# Altium integrated library Diode - Rectifier.IntLib: 777 symbols (part 1 of 12)
Pins are listed as number, name and electrical type; pins without a type are passive.

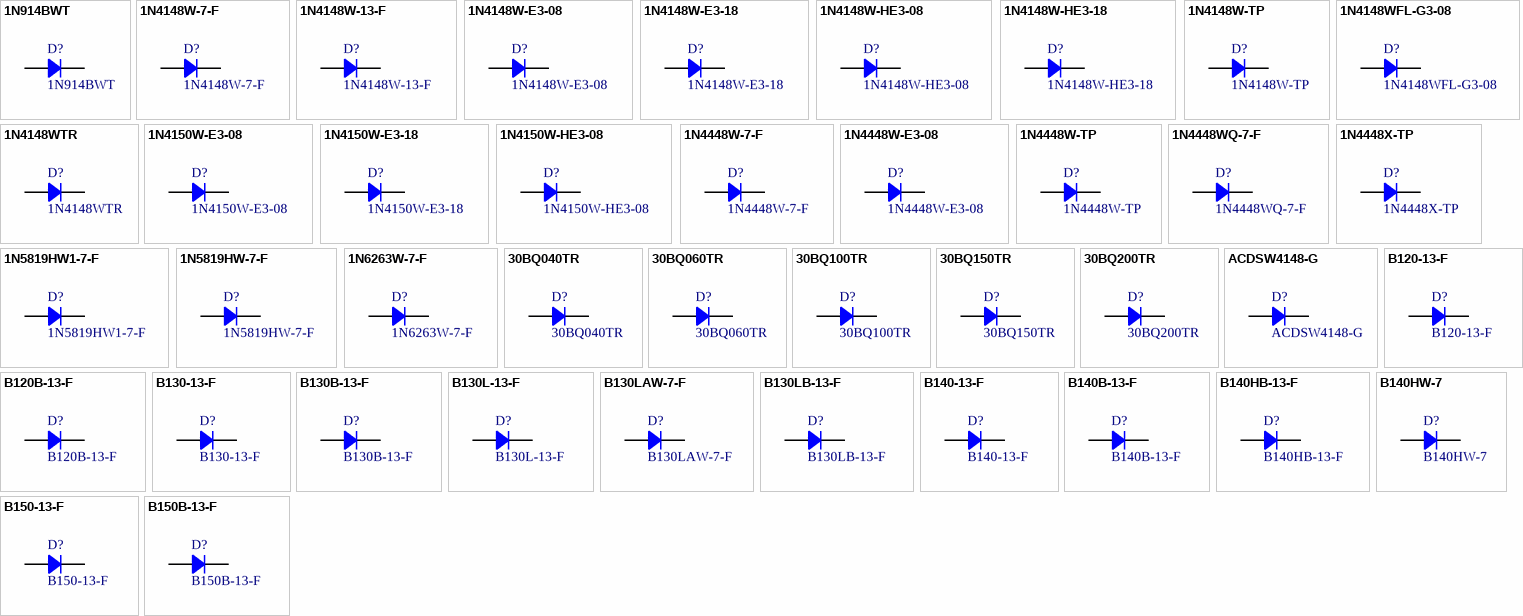
[diagram p0: symbols 1N914BWT to B150B-13-F]

## 1N914BWT
designator D?
DIODE GEN PURP 75V 200MA SOD523F; Manufacturer: Fairchild Semiconductor; Type: Surface Mount; Current Reverse Leakage @ Vr: 5uA @ 75V; Reverse Recovery Time (trr): 4ns; Voltage Forward (Vf): 1V @ 100mA; Part Number: 1N914BWT; PartId: 7145; Supplier 1: Digi-Key; Supplier Part Number 1: 1N914BWTTR-ND; ComponentLink1Description: Datasheet; ComponentLink1URL: http://www.fairchildsemi.com/datasheets/1N/1N914BWT.pdf; ComponentLink2Description: Digi-Key Listing; ComponentLink2URL: http://www.digikey.ca/product-detail/en/1N914BWT/1N914BWTTR-ND/1954019; Junction Operating Temperature: -55C ~ 150C; Price: 0.0336; Device Package: SC-79, SOD-523F; Voltage DC Reverse (Vr): 75V; Current Rectified: 200mA
footprint SOD523F
pins: 1, 2

## 1N4148W-7-F
designator D?
DIODE GEN PURP 100V 300MA SOD123; Manufacturer: Diodes Incorporated; Type: Standard; Current Reverse Leakage @ Vr: 1uA @ 75V; Reverse Recovery Time (trr): 4ns; Current Rectified: 300mA (DC); Voltage Forward (Vf): 1.25V @ 150mA; Part Number: 1N4148W-7-F; PartId: 14588; Supplier 1: Digi-Key; Supplier Part Number 1: 1N4148W-FDITR-ND; ComponentLink1Description: Datasheet; ComponentLink1URL: http://www.diodes.com/_files/datasheets/ds30086.pdf; ComponentLink2Description: Digi-Key Listing; ComponentLink2URL: https://www.digikey.com/product-detail/en/diodes-incorporated/1N4148W-7-F/1N4148W-FDITR-ND/814371; Junction Operating Temperature: -65C ~ 150C; Price: 0.028; Device Package: SOD-123; Voltage DC Reverse (Vr): 100V
footprint SOD-123
pins: 1, 2

## 1N4148W-13-F
designator D?
DIODE GEN PURP 100V 150MA SOD123; Manufacturer: Diodes Incorporated; Type: Standard; Current Reverse Leakage @ Vr: 1uA @ 75V; Reverse Recovery Time (trr): 4ns; Voltage Forward (Vf): 1.25V @ 150mA; Part Number: 1N4148W-13-F; PartId: 14600; Supplier 1: Digi-Key; Supplier Part Number 1: 1N4148W-13FDITR-ND; ComponentLink1Description: Datasheet; ComponentLink1URL: http://www.diodes.com/_files/datasheets/ds30086.pdf; ComponentLink2Description: Digi-Key Listing; ComponentLink2URL: https://www.digikey.com/product-detail/en/diodes-incorporated/1N4148W-13-F/1N4148W-13FDITR-ND/1933928; Junction Operating Temperature: -65C ~ 150C; Price: 0.064; Device Package: SOD-123; Voltage DC Reverse (Vr): 100V; Current Rectified: 150mA
footprint SOD-123
pins: 1, 2

## 1N4148W-E3-08
designator D?
DIODE GEN PURP 75V 150MA SOD123; Manufacturer: Vishay Semiconductor Diodes Division; Type: Standard; Current Reverse Leakage @ Vr: 100uA @ 100V; Reverse Recovery Time (trr): 4ns; Voltage Forward (Vf): 1.2V @ 100mA; Part Number: 1N4148W-E3-08; PartId: 29363; Supplier 1: Digi-Key; Supplier Part Number 1: 1N4148W-E3-08CT-ND; ComponentLink1Description: Datasheet; ComponentLink1URL: http://www.vishay.com/docs/85748/1n4148w.pdf; ComponentLink2Description: Digi-Key Listing; ComponentLink2URL: https://www.digikey.com/product-detail/en/vishay-semiconductor-diodes-division/1N4148W-E3-08/1N4148W-E3-08CT-ND/3104405; Junction Operating Temperature: 150C (Max); Price: 0.23; Device Package: SOD-123; Voltage DC Reverse (Vr): 75V; Current Rectified: 150mA
footprint SOD-123
pins: 1, 2

## 1N4148W-E3-18
designator D?
DIODE GEN PURP 75V 150MA SOD123; Manufacturer: Vishay Semiconductor Diodes Division; Type: Standard; Current Reverse Leakage @ Vr: 100uA @ 100V; Reverse Recovery Time (trr): 4ns; Voltage Forward (Vf): 1.2V @ 100mA; Part Number: 1N4148W-E3-18; PartId: 29355; Supplier 1: Digi-Key; Supplier Part Number 1: 1N4148W-E3-18CT-ND; ComponentLink1Description: Datasheet; ComponentLink1URL: http://www.vishay.com/docs/85748/1n4148w.pdf; ComponentLink2Description: Digi-Key Listing; ComponentLink2URL: https://www.digikey.com/product-detail/en/vishay-semiconductor-diodes-division/1N4148W-E3-18/1N4148W-E3-18CT-ND/3104406; Junction Operating Temperature: 150C (Max); Price: 0.23; Device Package: SOD-123; Voltage DC Reverse (Vr): 75V; Current Rectified: 150mA
footprint SOD-123
pins: 1, 2

## 1N4148W-HE3-08
designator D?
DIODE GEN PURP 75V 150MA SOD123; Manufacturer: Vishay Semiconductor Diodes Division; Type: Standard; Current Reverse Leakage @ Vr: 100uA @ 100V; Reverse Recovery Time (trr): 4ns; Voltage Forward (Vf): 1.2V @ 100mA; Part Number: 1N4148W-HE3-08; PartId: 29404; Supplier 1: Digi-Key; Supplier Part Number 1: 1N4148W-HE3-08GICT-ND; ComponentLink1Description: Datasheet; ComponentLink1URL: http://www.vishay.com/docs/85748/1n4148w.pdf; ComponentLink2Description: Digi-Key Listing; ComponentLink2URL: https://www.digikey.com/product-detail/en/vishay-semiconductor-diodes-division/1N4148W-HE3-08/1N4148W-HE3-08GICT-ND/6228445; Junction Operating Temperature: -55C ~ 150C; Price: 0.24; Device Package: SOD-123; Voltage DC Reverse (Vr): 75V; Current Rectified: 150mA
footprint SOD-123
pins: 1, 2

## 1N4148W-HE3-18
designator D?
DIODE GEN PURP 75V 150MA SOD123; Manufacturer: Vishay Semiconductor Diodes Division; Type: Standard; Current Reverse Leakage @ Vr: 100uA @ 100V; Reverse Recovery Time (trr): 4ns; Voltage Forward (Vf): 1.2V @ 100mA; Part Number: 1N4148W-HE3-18; PartId: 29418; Supplier 1: Digi-Key; Supplier Part Number 1: 1N4148W-HE3-18GICT-ND; ComponentLink1Description: Datasheet; ComponentLink1URL: http://www.vishay.com/docs/85748/1n4148w.pdf; ComponentLink2Description: Digi-Key Listing; ComponentLink2URL: https://www.digikey.com/product-detail/en/vishay-semiconductor-diodes-division/1N4148W-HE3-18/1N4148W-HE3-18GICT-ND/6228415; Junction Operating Temperature: -55C ~ 150C; Price: 0.24; Device Package: SOD-123; Voltage DC Reverse (Vr): 75V; Current Rectified: 150mA
footprint SOD-123
pins: 1, 2

## 1N4148W-TP
designator D?
DIODE GEN PURP 100V 150MA SOD123; Manufacturer: Micro Commercial Co; Type: Surface Mount; Current Reverse Leakage @ Vr: 1A @ 75V; Reverse Recovery Time (trr): 4ns; Voltage Forward (Vf): 1.25V @ 150mA; Part Number: 1N4148W-TP; PartId: 7114; Supplier 1: Digi-Key; Supplier Part Number 1: 1N4148WTPMSTR-ND; ComponentLink1Description: Datasheet; ComponentLink1URL: http://www.mccsemi.com/up_pdf/1N4148W(SOD123).pdf; ComponentLink2Description: Digi-Key Listing; ComponentLink2URL: http://www.digikey.ca/product-detail/en/1N4148W-TP/1N4148WTPMSTR-ND/717196; Junction Operating Temperature: -65C ~ 150C; Price: 0.0321; Device Package: SOD-123; Voltage DC Reverse (Vr): 100V; Current Rectified: 150mA
footprint SOD123F
pins: 1, 2

## 1N4148WFL-G3-08
designator D?
DIODE GP 75V 150MA SOD123FL; Manufacturer: Vishay Semiconductor Diodes Division; Type: Surface Mount; Current Reverse Leakage @ Vr: 5A @ 75V; Reverse Recovery Time (trr): 4ns; Voltage Forward (Vf): 1.2V @ 100mA; Part Number: 1N4148WFL-G3-08; PartId: 7113; Supplier 1: Digi-Key; Supplier Part Number 1: 1N4148WFL-G3-08GITR-ND; ComponentLink1Description: Datasheet; ComponentLink1URL: http://www.vishay.com/docs/85887/1n4148wfl-g.pdf; ComponentLink2Description: Digi-Key Listing; ComponentLink2URL: http://www.digikey.ca/product-detail/en/1N4148WFL-G3-08/1N4148WFL-G3-08GITR-ND/4477244; Junction Operating Temperature: 150C (Max); Price: 0.0292; Device Package: SOD-123F; Voltage DC Reverse (Vr): 75V; Current Rectified: 150mA
footprint SOD123F
pins: 1, 2

## 1N4148WTR
designator D?
DIODE GEN PURP 75V 250MA SOD123; Manufacturer: SMC Diode Solutions; Type: Standard; Current Reverse Leakage @ Vr: 2.5uA @ 75V; Reverse Recovery Time (trr): 4ns; Current Rectified: 250mA (DC); Voltage Forward (Vf): 1.25V @ 150mA; Part Number: 1N4148WTR; PartId: 29352; Supplier 1: Digi-Key; Supplier Part Number 1: 1655-1360-1-ND; ComponentLink1Description: Datasheet; ComponentLink1URL: http://www.smc-diodes.com/propdf/1N4148W%20N0571%20REV.C.pdf; ComponentLink2Description: Digi-Key Listing; ComponentLink2URL: https://www.digikey.com/product-detail/en/smc-diode-solutions/1N4148WTR/1655-1360-1-ND/6022805; Junction Operating Temperature: -55C ~ 150C; Price: 0.13; Device Package: SOD-123; Voltage DC Reverse (Vr): 75V
footprint SOD-123
pins: 1, 2

## 1N4150W-E3-08
designator D?
DIODE GEN PURP 50V 200MA SOD123; Manufacturer: Vishay Semiconductor Diodes Division; Type: Standard; Current Reverse Leakage @ Vr: 100nA @ 50V; Reverse Recovery Time (trr): 4ns; Voltage Forward (Vf): 1V @ 200mA; Part Number: 1N4150W-E3-08; PartId: 29368; Supplier 1: Digi-Key; Supplier Part Number 1: 1N4150W-E3-08CT-ND; ComponentLink1Description: Datasheet; ComponentLink1URL: http://www.vishay.com/docs/85720/1n4150wv.pdf; ComponentLink2Description: Digi-Key Listing; ComponentLink2URL: https://www.digikey.com/product-detail/en/vishay-semiconductor-diodes-division/1N4150W-E3-08/1N4150W-E3-08CT-ND/3104407; Junction Operating Temperature: 150C (Max); Price: 0.26; Device Package: SOD-123; Voltage DC Reverse (Vr): 50V; Current Rectified: 200mA
footprint SOD-123
pins: 1, 2

## 1N4150W-E3-18
designator D?
DIODE GEN PURP 50V 200MA SOD123; Manufacturer: Vishay Semiconductor Diodes Division; Type: Standard; Current Reverse Leakage @ Vr: 100nA @ 50V; Reverse Recovery Time (trr): 4ns; Voltage Forward (Vf): 1V @ 200mA; Part Number: 1N4150W-E3-18; PartId: 29439; Supplier 1: Digi-Key; Supplier Part Number 1: 1N4150W-E3-18GICT-ND; ComponentLink1Description: Datasheet; ComponentLink1URL: http://www.vishay.com/docs/85720/1n4150wv.pdf; ComponentLink2Description: Digi-Key Listing; ComponentLink2URL: https://www.digikey.com/product-detail/en/vishay-semiconductor-diodes-division/1N4150W-E3-18/1N4150W-E3-18GICT-ND/6228417; Junction Operating Temperature: -55C ~ 150C; Price: 0.26; Device Package: SOD-123; Voltage DC Reverse (Vr): 50V; Current Rectified: 200mA
footprint SOD-123
pins: 1, 2

## 1N4150W-HE3-08
designator D?
DIODE GEN PURP 50V 200MA SOD123; Manufacturer: Vishay Semiconductor Diodes Division; Type: Standard; Current Reverse Leakage @ Vr: 100nA @ 50V; Reverse Recovery Time (trr): 4ns; Voltage Forward (Vf): 1V @ 200mA; Part Number: 1N4150W-HE3-08; PartId: 29406; Supplier 1: Digi-Key; Supplier Part Number 1: 1N4150W-HE3-08GICT-ND; ComponentLink1Description: Datasheet; ComponentLink1URL: http://www.vishay.com/docs/85720/1n4150wv.pdf; ComponentLink2Description: Digi-Key Listing; ComponentLink2URL: https://www.digikey.com/product-detail/en/vishay-semiconductor-diodes-division/1N4150W-HE3-08/1N4150W-HE3-08GICT-ND/6228446; Junction Operating Temperature: -55C ~ 150C; Price: 0.27; Device Package: SOD-123; Voltage DC Reverse (Vr): 50V; Current Rectified: 200mA
footprint SOD-123
pins: 1, 2

## 1N4448W-7-F
designator D?
DIODE GEN PURP 75V 250MA SOD123; Manufacturer: Diodes Incorporated; Type: Standard; Current Reverse Leakage @ Vr: 2.5uA @ 75V; Reverse Recovery Time (trr): 4ns; Voltage Forward (Vf): 1.25V @ 150mA; Part Number: 1N4448W-7-F; PartId: 14589; Supplier 1: Digi-Key; Supplier Part Number 1: 1N4448W-FDITR-ND; ComponentLink1Description: Datasheet; ComponentLink1URL: http://www.diodes.com/_files/datasheets/ds12002.pdf; ComponentLink2Description: Digi-Key Listing; ComponentLink2URL: https://www.digikey.com/product-detail/en/diodes-incorporated/1N4448W-7-F/1N4448W-FDITR-ND/717680; Junction Operating Temperature: -65C ~ 150C; Price: 0.0306; Device Package: SOD-123; Voltage DC Reverse (Vr): 75V; Current Rectified: 250mA
footprint SOD-123
pins: 1, 2

## 1N4448W-E3-08
designator D?
DIODE GEN PURP 75V 150MA SOD123; Manufacturer: Vishay Semiconductor Diodes Division; Type: Standard; Current Reverse Leakage @ Vr: 5uA @ 75V; Reverse Recovery Time (trr): 4ns; Voltage Forward (Vf): 720mV @ 5mA; Part Number: 1N4448W-E3-08; PartId: 29405; Supplier 1: Digi-Key; Supplier Part Number 1: 1N4448W-E3-08GICT-ND; ComponentLink1Description: Datasheet; ComponentLink1URL: http://www.vishay.com/docs/85722/1n4448w.pdf; ComponentLink2Description: Digi-Key Listing; ComponentLink2URL: https://www.digikey.com/product-detail/en/vishay-semiconductor-diodes-division/1N4448W-E3-08/1N4448W-E3-08GICT-ND/6228447; Junction Operating Temperature: -55C ~ 150C; Price: 0.26; Device Package: SOD-123; Voltage DC Reverse (Vr): 75V; Current Rectified: 150mA
footprint SOD-123
pins: 1, 2

## 1N4448W-TP
designator D?
DIODE GEN PURP 75V 250MA SOD123; Manufacturer: Micro Commercial Co; Type: Standard; Current Reverse Leakage @ Vr: 2.5uA @ 75V; Reverse Recovery Time (trr): 4ns; Voltage Forward (Vf): 1V @ 100mA; Part Number: 1N4448W-TP; PartId: 29353; Supplier 1: Digi-Key; Supplier Part Number 1: 1N4448WTPMSCT-ND; ComponentLink1Description: Datasheet; ComponentLink1URL: http://www.mccsemi.com/up_pdf/1N4448W(SOD-123).pdf; ComponentLink2Description: Digi-Key Listing; ComponentLink2URL: https://www.digikey.com/product-detail/en/micro-commercial-co/1N4448W-TP/1N4448WTPMSCT-ND/789337; Junction Operating Temperature: -55C ~ 150C; Price: 0.14; Device Package: SOD-123; Voltage DC Reverse (Vr): 75V; Current Rectified: 250mA
footprint SOD-123
pins: 1, 2

## 1N4448WQ-7-F
designator D?
DIODE GEN PURP 75V 250MA SOD123; Manufacturer: Diodes Incorporated; Type: Standard; Current Reverse Leakage @ Vr: 25nA @ 20V; Reverse Recovery Time (trr): 4ns; Voltage Forward (Vf): 1.25V @ 150mA; Part Number: 1N4448WQ-7-F; PartId: 29361; Supplier 1: Digi-Key; Supplier Part Number 1: 1N4448WQ-7-FDICT-ND; ComponentLink1Description: Datasheet; ComponentLink1URL: http://diodes.com/_files/datasheets/ds12002.pdf; ComponentLink2Description: Digi-Key Listing; ComponentLink2URL: https://www.digikey.com/product-detail/en/diodes-incorporated/1N4448WQ-7-F/1N4448WQ-7-FDICT-ND/5176058; Junction Operating Temperature: -65C ~ 150C; Price: 0.22; Device Package: SOD-123; Voltage DC Reverse (Vr): 75V; Current Rectified: 250mA
footprint SOD-123
pins: 1, 2

## 1N4448X-TP
designator D?
DIODE GEN PURP 75V 250MA SOD523; Manufacturer: Micro Commercial Co; Type: Standard; Current Reverse Leakage @ Vr: 2.5A @ 75V; Reverse Recovery Time (trr): 4ns; Voltage Forward (Vf): 1.25V @ 150mA; Part Number: 1N4448X-TP; PartId: 7112; Supplier 1: Digi-Key; Supplier Part Number 1: 1N4448XTPMSTR-ND; ComponentLink1Description: Datasheet; ComponentLink1URL: http://www.mccsemi.com/up_pdf/1N4448X(SOD-523).PDF; ComponentLink2Description: Digi-Key Listing; ComponentLink2URL: http://www.digikey.ca/product-detail/en/1N4448X-TP/1N4448XTPMSTR-ND/789329; Junction Operating Temperature: -65C ~ 150C; Price: 0.029; Device Package: SC-79, SOD-523; Voltage DC Reverse (Vr): 75V; Current Rectified: 250mA
footprint SOD523F
pins: 1, 2

## 1N5819HW1-7-F
designator D?
DIODE RECT SB 40V 1A SOD123F; Manufacturer: Diodes Incorporated; Type: Super Barrier; Current Reverse Leakage @ Vr: 500uA @ 40V; Reverse Recovery Time (trr): 15ns; Voltage Forward (Vf): 510mV @ 1A; Part Number: 1N5819HW1-7-F; PartId: 29290; Supplier 1: Digi-Key; Supplier Part Number 1: 1N5819HW1-7-FDICT-ND; ComponentLink1Description: Datasheet; ComponentLink1URL: http://www.diodes.com/_files/datasheets/1N5819HW1.pdf; ComponentLink2Description: Digi-Key Listing; ComponentLink2URL: https://www.digikey.com/product-detail/en/diodes-incorporated/1N5819HW1-7-F/1N5819HW1-7-FDICT-ND/5801283; Junction Operating Temperature: -55C ~ 125C; Price: 0.47; Device Package: SOD-123F; Voltage DC Reverse (Vr): 40V; Current Rectified: 1A
footprint SOD123F
pins: 1, 2

## 1N5819HW-7-F
designator D?
DIODE SCHOTTKY 40V 1A SOD123; Manufacturer: Diodes Incorporated; Current Reverse Leakage @ Vr: 1mA @ 40V; Voltage Forward (Vf): 450mV @ 1A; Part Number: 1N5819HW-7-F; PartId: 14604; Supplier 1: Digi-Key; Supplier Part Number 1: 1N5819HW-FDITR-ND; ComponentLink1Description: Datasheet; ComponentLink1URL: http://www.diodes.com/_files/datasheets/ds30217.pdf; ComponentLink2Description: Digi-Key Listing; ComponentLink2URL: https://www.digikey.com/product-detail/en/diodes-incorporated/1N5819HW-7-F/1N5819HW-FDITR-ND/814970; Junction Operating Temperature: -65C ~ 125C; Price: 0.08; Type: Schottky; Device Package: SOD-123; Voltage DC Reverse (Vr): 40V; Current Rectified: 1A
footprint SOD-123
pins: 1, 2

## 1N6263W-7-F
designator D?
DIODE SCHOTTKY 60V 15MA SOD123; Manufacturer: Diodes Incorporated; Current Reverse Leakage @ Vr: 200nA @ 50V; Reverse Recovery Time (trr): 1ns; Current Rectified: 15mA (DC); Voltage Forward (Vf): 1V @ 15mA; Part Number: 1N6263W-7-F; PartId: 14614; Supplier 1: Digi-Key; Supplier Part Number 1: 1N6263W-FDITR-ND; ComponentLink1Description: Datasheet; ComponentLink1URL: http://www.diodes.com/_files/datasheets/ds11014.pdf; ComponentLink2Description: Digi-Key Listing; ComponentLink2URL: https://www.digikey.com/product-detail/en/diodes-incorporated/1N6263W-7-F/1N6263W-FDITR-ND/814969; Junction Operating Temperature: -55C ~ 125C; Price: 0.09; Type: Schottky; Device Package: SOD-123; Voltage DC Reverse (Vr): 60V
footprint SOD-123
pins: 1, 2

## 30BQ040TR
designator D?
DIODE SCHOTTKY 40V SMC; Manufacturer: SMC Diode Solutions; Current Reverse Leakage @ Vr: 500uA @ 40V; Voltage Forward (Vf): 680mV @ 3A; Part Number: 30BQ040TR; PartId: 27712; Supplier 1: Digi-Key; Supplier Part Number 1: 1655-1387-1-ND; ComponentLink1Description: Datasheet; ComponentLink1URL: http://www.smc-diodes.com/propdf/30BQ040%20N0674%20REV.-.pdf; ComponentLink2Description: Digi-Key Listing; ComponentLink2URL: https://www.digikey.com/product-detail/en/smc-diode-solutions/30BQ040TR/1655-1387-1-ND/6022832; Junction Operating Temperature: -55C ~ 150C; Price: 0.51; Type: Schottky; Device Package: DO-214AB, SMC; Voltage DC Reverse (Vr): 40V
footprint ST DO214AB SMC
pins: 1, 2

## 30BQ060TR
designator D?
DIODE SCHOTTKY 60V SMC; Manufacturer: SMC Diode Solutions; Current Reverse Leakage @ Vr: 500uA @ 60V; Voltage Forward (Vf): 580mV @ 3A; Part Number: 30BQ060TR; PartId: 27794; Supplier 1: Digi-Key; Supplier Part Number 1: 1655-1388-1-ND; ComponentLink1Description: Datasheet; ComponentLink1URL: http://www.smc-diodes.com/propdf/30BQ060%20N0675%20REV.-.pdf; ComponentLink2Description: Digi-Key Listing; ComponentLink2URL: https://www.digikey.com/product-detail/en/smc-diode-solutions/30BQ060TR/1655-1388-1-ND/6022833; Junction Operating Temperature: -55C ~ 150C; Price: 0.51; Type: Schottky; Device Package: DO-214AB, SMC; Voltage DC Reverse (Vr): 60V
footprint ST DO214AB SMC
pins: 1, 2

## 30BQ100TR
designator D?
DIODE SCHOTTKY 100V SMC; Manufacturer: SMC Diode Solutions; Current Reverse Leakage @ Vr: 500uA @ 100V; Voltage Forward (Vf): 790mV @ 3A; Part Number: 30BQ100TR; PartId: 27840; Supplier 1: Digi-Key; Supplier Part Number 1: 1655-1389-1-ND; ComponentLink1Description: Datasheet; ComponentLink1URL: http://www.smc-diodes.com/propdf/30BQ100%20N0676%20REV.-.pdf; ComponentLink2Description: Digi-Key Listing; ComponentLink2URL: https://www.digikey.com/product-detail/en/smc-diode-solutions/30BQ100TR/1655-1389-1-ND/6022834; Junction Operating Temperature: -55C ~ 175C; Price: 0.54; Type: Schottky; Device Package: DO-214AB, SMC; Voltage DC Reverse (Vr): 100V
footprint ST DO214AB SMC
pins: 1, 2

## 30BQ150TR
designator D?
DIODE SCHOTTKY 150V SMC; Manufacturer: SMC Diode Solutions; Current Reverse Leakage @ Vr: 1mA @ 150V; Voltage Forward (Vf): 860mV @ 3A; Part Number: 30BQ150TR; PartId: 27838; Supplier 1: Digi-Key; Supplier Part Number 1: 1655-1390-1-ND; ComponentLink1Description: Datasheet; ComponentLink1URL: http://www.smc-diodes.com/propdf/30BQ150%20N0677%20REV.-.pdf; ComponentLink2Description: Digi-Key Listing; ComponentLink2URL: https://www.digikey.com/product-detail/en/smc-diode-solutions/30BQ150TR/1655-1390-1-ND/6022835; Junction Operating Temperature: -55C ~ 175C; Price: 0.54; Type: Schottky; Device Package: DO-214AB, SMC; Voltage DC Reverse (Vr): 150V
footprint ST DO214AB SMC
pins: 1, 2

## 30BQ200TR
designator D?
DIODE SCHOTTKY 200V SMC; Manufacturer: SMC Diode Solutions; Current Reverse Leakage @ Vr: 1mA @ 200V; Voltage Forward (Vf): 920mV @ 3A; Part Number: 30BQ200TR; PartId: 27809; Supplier 1: Digi-Key; Supplier Part Number 1: 1655-1391-1-ND; ComponentLink1Description: Datasheet; ComponentLink1URL: http://www.smc-diodes.com/propdf/30BQ200%20N0026%20REV.-.pdf; ComponentLink2Description: Digi-Key Listing; ComponentLink2URL: https://www.digikey.com/product-detail/en/smc-diode-solutions/30BQ200TR/1655-1391-1-ND/6022836; Junction Operating Temperature: -55C ~ 175C; Price: 0.4; Type: Schottky; Device Package: DO-214AB, SMC; Voltage DC Reverse (Vr): 200V
footprint ST DO214AB SMC
pins: 1, 2

## ACDSW4148-G
designator D?
DIODE GEN PURP 100V 150MA SOD123; Manufacturer: Comchip Technology; Type: Standard; Current Reverse Leakage @ Vr: 1uA @ 75V; Reverse Recovery Time (trr): 4ns; Voltage Forward (Vf): 1.25V @ 150mA; Part Number: ACDSW4148-G; PartId: 29356; Supplier 1: Digi-Key; Supplier Part Number 1: 641-1624-1-ND; ComponentLink1Description: Datasheet; ComponentLink1URL: http://www.comchiptech.com/cms/UserFiles/ACDSW4148-G%20RevA259151.pdf; ComponentLink2Description: Digi-Key Listing; ComponentLink2URL: https://www.digikey.com/product-detail/en/comchip-technology/ACDSW4148-G/641-1624-1-ND/5013829; Junction Operating Temperature: -55C ~ 150C; Price: 0.21; Device Package: SOD-123; Voltage DC Reverse (Vr): 100V; Current Rectified: 150mA
footprint SOD-123
pins: 1, 2

## B120-13-F
designator D?
DIODE SCHOTTKY 20V 1A SMA; Manufacturer: Diodes Incorporated; Current Reverse Leakage @ Vr: 500uA @ 20V; Voltage Forward (Vf): 500mV @ 1A; Part Number: B120-13-F; PartId: 16319; Supplier 1: Digi-Key; Supplier Part Number 1: B120-FDITR-ND; ComponentLink1Description: Datasheet; ComponentLink1URL: http://www.diodes.com/_files/datasheets/ds13002.pdf; ComponentLink2Description: Digi-Key Listing; ComponentLink2URL: https://www.digikey.com/product-detail/en/diodes-incorporated/B120-13-F/B120-FDITR-ND/749950; Junction Operating Temperature: -65C ~ 150C; Price: 0.0684; Type: Schottky; Device Package: DO-214AC, SMA; Voltage DC Reverse (Vr): 20V; Current Rectified: 1A
footprint DO214AC SMA
pins: 1, 2

## B120B-13-F
designator D?
DIODE SCHOTTKY 20V 1A SMB; Manufacturer: Diodes Incorporated; Current Reverse Leakage @ Vr: 500uA @ 20V; Voltage Forward (Vf): 500mV @ 1A; Part Number: B120B-13-F; PartId: 16281; Supplier 1: Digi-Key; Supplier Part Number 1: B120B-FDITR-ND; ComponentLink1Description: Datasheet; ComponentLink1URL: http://www.diodes.com/_files/datasheets/ds13002.pdf; ComponentLink2Description: Digi-Key Listing; ComponentLink2URL: https://www.digikey.com/product-detail/en/diodes-incorporated/B120B-13-F/B120B-FDITR-ND/806530; Junction Operating Temperature: -65C ~ 150C; Price: 0.099; Type: Schottky; Device Package: DO-214AA, SMB; Voltage DC Reverse (Vr): 20V; Current Rectified: 1A
footprint DO214AA SMB
pins: 1, 2

## B130-13-F
designator D?
DIODE SCHOTTKY 30V 1A SMA; Manufacturer: Diodes Incorporated; Type: Surface Mount; Current Reverse Leakage @ Vr: 500uA @ 30V; Voltage Forward (Vf): 500mV @ 1A; Part Number: B130-13-F; PartId: 7122; Supplier 1: Digi-Key; Supplier Part Number 1: B130-FDITR-ND; ComponentLink1Description: Datasheet; ComponentLink1URL: http://www.diodes.com/_files/datasheets/ds13002.pdf; ComponentLink2Description: Digi-Key Listing; ComponentLink2URL: http://www.digikey.ca/product-detail/en/B130-13-F/B130-FDITR-ND/814935; Junction Operating Temperature: -65C ~ 150C; Price: 0.0852; Device Package: DO-214AC, SMA; Reverse Recovery Time (trr): -; Voltage DC Reverse (Vr): 30V; Current Rectified: 1A
footprint DO214AC SMA
pins: 1, 2

## B130B-13-F
designator D?
DIODE SCHOTTKY 30V 1A SMB; Manufacturer: Diodes Incorporated; Current Reverse Leakage @ Vr: 500uA @ 30V; Voltage Forward (Vf): 500mV @ 1A; Part Number: B130B-13-F; PartId: 16275; Supplier 1: Digi-Key; Supplier Part Number 1: B130B-FDITR-ND; ComponentLink1Description: Datasheet; ComponentLink1URL: http://www.diodes.com/_files/datasheets/ds13002.pdf; ComponentLink2Description: Digi-Key Listing; ComponentLink2URL: https://www.digikey.com/product-detail/en/diodes-incorporated/B130B-13-F/B130B-FDITR-ND/814936; Junction Operating Temperature: -65C ~ 150C; Price: 0.09; Type: Schottky; Device Package: DO-214AA, SMB; Voltage DC Reverse (Vr): 30V; Current Rectified: 1A
footprint DO214AA SMB
pins: 1, 2

## B130L-13-F
designator D?
DIODE SCHOTTKY 30V 1A SMA; Manufacturer: Diodes Incorporated; Current Reverse Leakage @ Vr: 1mA @ 30V; Voltage Forward (Vf): 410mV @ 1A; Part Number: B130L-13-F; PartId: 16355; Supplier 1: Digi-Key; Supplier Part Number 1: B130L-FDITR-ND; ComponentLink1Description: Datasheet; ComponentLink1URL: http://www.diodes.com/_files/datasheets/ds30151.pdf; ComponentLink2Description: Digi-Key Listing; ComponentLink2URL: https://www.digikey.com/product-detail/en/diodes-incorporated/B130L-13-F/B130L-FDITR-ND/749951; Junction Operating Temperature: -55C ~ 125C; Price: 0.1003; Type: Schottky; Device Package: DO-214AC, SMA; Voltage DC Reverse (Vr): 30V; Current Rectified: 1A
footprint DO214AC SMA
pins: 1, 2

## B130LAW-7-F
designator D?
DIODE SCHOTTKY 30V 1A SOD123; Manufacturer: Diodes Incorporated; Current Reverse Leakage @ Vr: 1mA @ 30V; Voltage Forward (Vf): 420mV @ 1A; Part Number: B130LAW-7-F; PartId: 14615; Supplier 1: Digi-Key; Supplier Part Number 1: B130LAW-FDITR-ND; ComponentLink1Description: Datasheet; ComponentLink1URL: http://www.diodes.com/_files/datasheets/ds30308.pdf; ComponentLink2Description: Digi-Key Listing; ComponentLink2URL: https://www.digikey.com/product-detail/en/diodes-incorporated/B130LAW-7-F/B130LAW-FDITR-ND/725013; Junction Operating Temperature: -55C ~ 125C; Price: 0.1062; Type: Schottky; Device Package: SOD-123; Voltage DC Reverse (Vr): 30V; Current Rectified: 1A
footprint SOD-123
pins: 1, 2

## B130LB-13-F
designator D?
DIODE SCHOTTKY 30V 2A SMB; Manufacturer: Diodes Incorporated; Current Reverse Leakage @ Vr: 1mA @ 30V; Voltage Forward (Vf): 445mV @ 2A; Part Number: B130LB-13-F; PartId: 16243; Supplier 1: Digi-Key; Supplier Part Number 1: B130LB-FDITR-ND; ComponentLink1Description: Datasheet; ComponentLink1URL: http://www.diodes.com/_files/datasheets/ds30043.pdf; ComponentLink2Description: Digi-Key Listing; ComponentLink2URL: https://www.digikey.com/product-detail/en/diodes-incorporated/B130LB-13-F/B130LB-FDITR-ND/804861; Junction Operating Temperature: -55C ~ 125C; Price: 0.0972; Type: Schottky; Device Package: DO-214AA, SMB; Voltage DC Reverse (Vr): 30V; Current Rectified: 2A
footprint DO214AA SMB
pins: 1, 2

## B140-13-F
designator D?
DIODE SCHOTTKY 40V 1A SMA; Manufacturer: Diodes Incorporated; Current Reverse Leakage @ Vr: 500uA @ 40V; Voltage Forward (Vf): 500mV @ 1A; Part Number: B140-13-F; PartId: 16318; Supplier 1: Digi-Key; Supplier Part Number 1: B140-FDITR-ND; ComponentLink1Description: Datasheet; ComponentLink1URL: http://www.diodes.com/_files/datasheets/ds13002.pdf; ComponentLink2Description: Digi-Key Listing; ComponentLink2URL: https://www.digikey.com/product-detail/en/diodes-incorporated/B140-13-F/B140-FDITR-ND/814934; Junction Operating Temperature: -65C ~ 150C; Price: 0.056; Type: Schottky; Device Package: DO-214AC, SMA; Voltage DC Reverse (Vr): 40V; Current Rectified: 1A
footprint DO214AC SMA
pins: 1, 2

## B140B-13-F
designator D?
DIODE SCHOTTKY 40V 1A SMB; Manufacturer: Diodes Incorporated; Current Reverse Leakage @ Vr: 500uA @ 40V; Voltage Forward (Vf): 500mV @ 1A; Part Number: B140B-13-F; PartId: 16244; Supplier 1: Digi-Key; Supplier Part Number 1: B140B-FDITR-ND; ComponentLink1Description: Datasheet; ComponentLink1URL: http://www.diodes.com/_files/datasheets/ds13002.pdf; ComponentLink2Description: Digi-Key Listing; ComponentLink2URL: https://www.digikey.com/product-detail/en/diodes-incorporated/B140B-13-F/B140B-FDITR-ND/804862; Junction Operating Temperature: -65C ~ 150C; Price: 0.099; Type: Schottky; Device Package: DO-214AA, SMB; Voltage DC Reverse (Vr): 40V; Current Rectified: 1A
footprint DO214AA SMB
pins: 1, 2

## B140HB-13-F
designator D?
DIODE SCHOTTKY 40V 1A SMB; Manufacturer: Diodes Incorporated; Current Reverse Leakage @ Vr: 100uA @ 40V; Voltage Forward (Vf): 530mV @ 1A; Part Number: B140HB-13-F; PartId: 16280; Supplier 1: Digi-Key; Supplier Part Number 1: B140HB-FDITR-ND; ComponentLink1Description: Datasheet; ComponentLink1URL: http://www.diodes.com/_files/datasheets/ds30128.pdf; ComponentLink2Description: Digi-Key Listing; ComponentLink2URL: https://www.digikey.com/product-detail/en/diodes-incorporated/B140HB-13-F/B140HB-FDITR-ND/814933; Junction Operating Temperature: -55C ~ 150C; Price: 0.099; Type: Schottky; Device Package: DO-214AA, SMB; Voltage DC Reverse (Vr): 40V; Current Rectified: 1A
footprint DO214AA SMB
pins: 1, 2

## B140HW-7
designator D?
DIODE SCHOTTKY 40V 1A SOD123; Manufacturer: Diodes Incorporated; Current Reverse Leakage @ Vr: 40uA @ 40V; Voltage Forward (Vf): 550mV @ 1A; Part Number: B140HW-7; PartId: 14605; Supplier 1: Digi-Key; Supplier Part Number 1: B140HWDITR-ND; ComponentLink1Description: Datasheet; ComponentLink1URL: http://www.diodes.com/_files/datasheets/ds30670.pdf; ComponentLink2Description: Digi-Key Listing; ComponentLink2URL: https://www.digikey.com/product-detail/en/diodes-incorporated/B140HW-7/B140HWDITR-ND/1099094; Junction Operating Temperature: -65C ~ 125C; Price: 0.08; Type: Schottky; Device Package: SOD-123; Voltage DC Reverse (Vr): 40V; Current Rectified: 1A
footprint SOD-123
pins: 1, 2

## B150-13-F
designator D?
DIODE SCHOTTKY 50V 1A SMA; Manufacturer: Diodes Incorporated; Current Reverse Leakage @ Vr: 500uA @ 50V; Voltage Forward (Vf): 700mV @ 1A; Part Number: B150-13-F; PartId: 16350; Supplier 1: Digi-Key; Supplier Part Number 1: B150-FDITR-ND; ComponentLink1Description: Datasheet; ComponentLink1URL: http://www.diodes.com/_files/datasheets/ds13002.pdf; ComponentLink2Description: Digi-Key Listing; ComponentLink2URL: https://www.digikey.com/product-detail/en/diodes-incorporated/B150-13-F/B150-FDITR-ND/755458; Junction Operating Temperature: -65C ~ 150C; Price: 0.085; Type: Schottky; Device Package: DO-214AC, SMA; Voltage DC Reverse (Vr): 50V; Current Rectified: 1A
footprint DO214AC SMA
pins: 1, 2

## B150B-13-F
designator D?
DIODE SCHOTTKY 50V 1A SMB; Manufacturer: Diodes Incorporated; Current Reverse Leakage @ Vr: 500uA @ 50V; Voltage Forward (Vf): 700mV @ 1A; Part Number: B150B-13-F; PartId: 16306; Supplier 1: Digi-Key; Supplier Part Number 1: B150B-FDITR-ND; ComponentLink1Description: Datasheet; ComponentLink1URL: http://www.diodes.com/_files/datasheets/ds13002.pdf; ComponentLink2Description: Digi-Key Listing; ComponentLink2URL: https://www.digikey.com/product-detail/en/diodes-incorporated/B150B-13-F/B150B-FDITR-ND/775831; Junction Operating Temperature: -65C ~ 150C; Price: 0.2465; Type: Schottky; Device Package: DO-214AA, SMB; Voltage DC Reverse (Vr): 50V; Current Rectified: 1A
footprint DO214AA SMB
pins: 1, 2

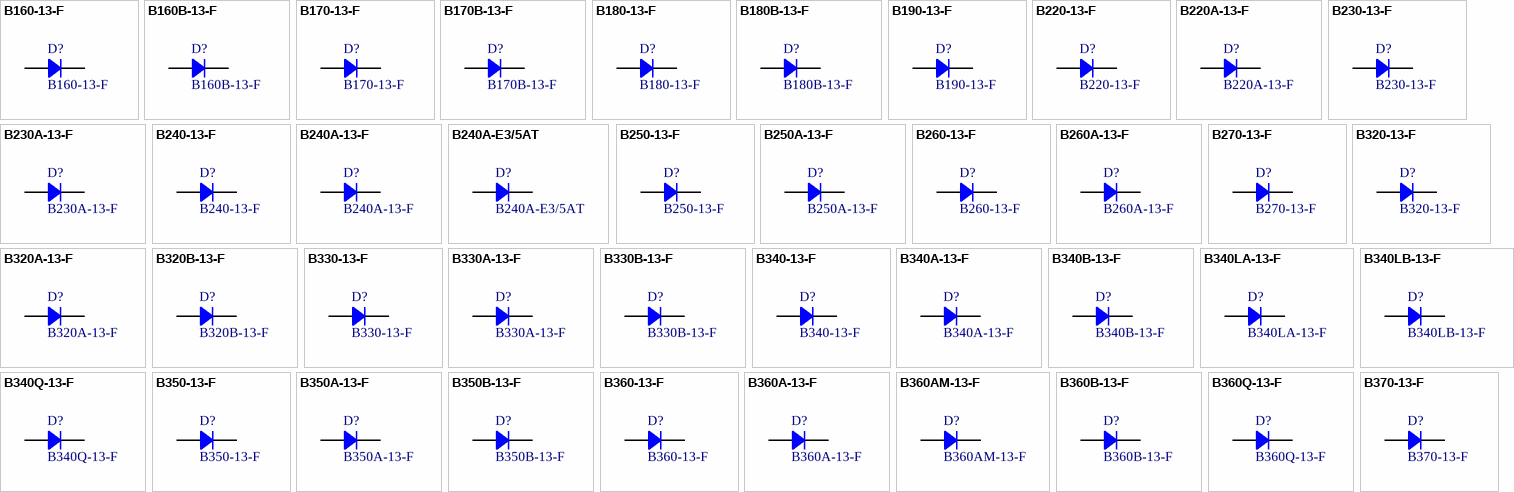
[diagram p1: symbols B160-13-F to B370-13-F]

## B160-13-F
designator D?
DIODE SCHOTTKY 60V 1A SMA; Manufacturer: Diodes Incorporated; Type: Surface Mount; Current Reverse Leakage @ Vr: 500uA @ 60V; Voltage Forward (Vf): 700mV @ 1A; Part Number: B160-13-F; PartId: 7123; Supplier 1: Digi-Key; Supplier Part Number 1: B160-FDITR-ND; ComponentLink1Description: Datasheet; ComponentLink1URL: http://www.diodes.com/_files/datasheets/ds13002.pdf; ComponentLink2Description: Digi-Key Listing; ComponentLink2URL: http://www.digikey.ca/product-detail/en/B160-13-F/B160-FDITR-ND/806531; Junction Operating Temperature: -65C ~ 150C; Price: 0.0852; Device Package: DO-214AC, SMA; Reverse Recovery Time (trr): -; Voltage DC Reverse (Vr): 60V; Current Rectified: 1A
footprint DO214AC SMA
pins: 1, 2

## B160B-13-F
designator D?
DIODE SCHOTTKY 60V 1A SMB; Manufacturer: Diodes Incorporated; Current Reverse Leakage @ Vr: 500uA @ 60V; Voltage Forward (Vf): 700mV @ 1A; Part Number: B160B-13-F; PartId: 16294; Supplier 1: Digi-Key; Supplier Part Number 1: B160B-FDITR-ND; ComponentLink1Description: Datasheet; ComponentLink1URL: http://www.diodes.com/_files/datasheets/ds13002.pdf; ComponentLink2Description: Digi-Key Listing; ComponentLink2URL: https://www.digikey.com/product-detail/en/diodes-incorporated/B160B-13-F/B160B-FDITR-ND/755459; Junction Operating Temperature: -65C ~ 150C; Price: 0.2465; Type: Schottky; Device Package: DO-214AA, SMB; Voltage DC Reverse (Vr): 60V; Current Rectified: 1A
footprint DO214AA SMB
pins: 1, 2

## B170-13-F
designator D?
DIODE SCHOTTKY 70V 1A SMA; Manufacturer: Diodes Incorporated; Current Reverse Leakage @ Vr: 500uA @ 70V; Voltage Forward (Vf): 790mV @ 1A; Part Number: B170-13-F; PartId: 16361; Supplier 1: Digi-Key; Supplier Part Number 1: B170-FDITR-ND; ComponentLink1Description: Datasheet; ComponentLink1URL: http://www.diodes.com/_files/datasheets/ds30018.pdf; ComponentLink2Description: Digi-Key Listing; ComponentLink2URL: https://www.digikey.com/product-detail/en/diodes-incorporated/B170-13-F/B170-FDITR-ND/814943; Junction Operating Temperature: -65C ~ 150C; Price: 0.174; Type: Schottky; Device Package: DO-214AC, SMA; Voltage DC Reverse (Vr): 70V; Current Rectified: 1A
footprint DO214AC SMA
pins: 1, 2

## B170B-13-F
designator D?
DIODE SCHOTTKY 70V 1A SMB; Manufacturer: Diodes Incorporated; Current Reverse Leakage @ Vr: 500uA @ 70V; Voltage Forward (Vf): 790mV @ 1A; Part Number: B170B-13-F; PartId: 16301; Supplier 1: Digi-Key; Supplier Part Number 1: B170B-FDITR-ND; ComponentLink1Description: Datasheet; ComponentLink1URL: http://www.diodes.com/_files/datasheets/ds30018.pdf; ComponentLink2Description: Digi-Key Listing; ComponentLink2URL: https://www.digikey.com/product-detail/en/diodes-incorporated/B170B-13-F/B170B-FDITR-ND/804863; Junction Operating Temperature: -65C ~ 150C; Price: 0.1237; Type: Schottky; Device Package: DO-214AA, SMB; Voltage DC Reverse (Vr): 70V; Current Rectified: 1A
footprint DO214AA SMB
pins: 1, 2

## B180-13-F
designator D?
DIODE SCHOTTKY 80V 1A SMA; Manufacturer: Diodes Incorporated; Current Reverse Leakage @ Vr: 500uA @ 80V; Voltage Forward (Vf): 790mV @ 1A; Part Number: B180-13-F; PartId: 16345; Supplier 1: Digi-Key; Supplier Part Number 1: B180-FDITR-ND; ComponentLink1Description: Datasheet; ComponentLink1URL: http://www.diodes.com/_files/datasheets/ds30018.pdf; ComponentLink2Description: Digi-Key Listing; ComponentLink2URL: https://www.digikey.com/product-detail/en/diodes-incorporated/B180-13-F/B180-FDITR-ND/814945; Junction Operating Temperature: -65C ~ 150C; Price: 0.27; Type: Schottky; Device Package: DO-214AC, SMA; Voltage DC Reverse (Vr): 80V; Current Rectified: 1A
footprint DO214AC SMA
pins: 1, 2

## B180B-13-F
designator D?
DIODE SCHOTTKY 80V 1A SMB; Manufacturer: Diodes Incorporated; Current Reverse Leakage @ Vr: 500uA @ 80V; Voltage Forward (Vf): 790mV @ 1A; Part Number: B180B-13-F; PartId: 16291; Supplier 1: Digi-Key; Supplier Part Number 1: B180B-FDITR-ND; ComponentLink1Description: Datasheet; ComponentLink1URL: http://www.diodes.com/_files/datasheets/ds30018.pdf; ComponentLink2Description: Digi-Key Listing; ComponentLink2URL: https://www.digikey.com/product-detail/en/diodes-incorporated/B180B-13-F/B180B-FDITR-ND/814938; Junction Operating Temperature: -65C ~ 150C; Price: 0.217; Type: Schottky; Device Package: DO-214AA, SMB; Voltage DC Reverse (Vr): 80V; Current Rectified: 1A
footprint DO214AA SMB
pins: 1, 2

## B190-13-F
designator D?
DIODE SCHOTTKY 90V 1A SMA; Manufacturer: Diodes Incorporated; Current Reverse Leakage @ Vr: 500uA @ 90V; Voltage Forward (Vf): 790mV @ 1A; Part Number: B190-13-F; PartId: 16364; Supplier 1: Digi-Key; Supplier Part Number 1: B190-FDITR-ND; ComponentLink1Description: Datasheet; ComponentLink1URL: http://www.diodes.com/_files/datasheets/ds30018.pdf; ComponentLink2Description: Digi-Key Listing; ComponentLink2URL: https://www.digikey.com/product-detail/en/diodes-incorporated/B190-13-F/B190-FDITR-ND/814944; Junction Operating Temperature: -65C ~ 150C; Price: 0.174; Type: Schottky; Device Package: DO-214AC, SMA; Voltage DC Reverse (Vr): 90V; Current Rectified: 1A
footprint DO214AC SMA
pins: 1, 2

## B220-13-F
designator D?
DIODE SCHOTTKY 20V 2A SMB; Manufacturer: Diodes Incorporated; Current Reverse Leakage @ Vr: 500uA @ 20V; Voltage Forward (Vf): 500mV @ 2A; Part Number: B220-13-F; PartId: 15735; Supplier 1: Digi-Key; Supplier Part Number 1: B220-FDITR-ND; ComponentLink1Description: Datasheet; ComponentLink1URL: http://www.diodes.com/_files/datasheets/ds13004.pdf; ComponentLink2Description: Digi-Key Listing; ComponentLink2URL: http://www.digikey.ca/product-detail/en/diodes-incorporated/B220-13-F/B220-FDITR-ND/804864; Junction Operating Temperature: -65C ~ 150C; Price: 0.1171; Type: Schottky; Device Package: DO-214AA, SMB; Reverse Recovery Time (trr): -; Voltage DC Reverse (Vr): 20V; Current Rectified: 2A
footprint DO214AA SMB
pins: 1, 2

## B220A-13-F
designator D?
DIODE SCHOTTKY 20V 2A SMA; Manufacturer: Diodes Incorporated; Current Reverse Leakage @ Vr: 500uA @ 20V; Voltage Forward (Vf): 500mV @ 2A; Part Number: B220A-13-F; PartId: 16327; Supplier 1: Digi-Key; Supplier Part Number 1: B220A-FDITR-ND; ComponentLink1Description: Datasheet; ComponentLink1URL: http://www.diodes.com/_files/datasheets/ds13004.pdf; ComponentLink2Description: Digi-Key Listing; ComponentLink2URL: https://www.digikey.com/product-detail/en/diodes-incorporated/B220A-13-F/B220A-FDITR-ND/751521; Junction Operating Temperature: -65C ~ 150C; Price: 0.0935; Type: Schottky; Device Package: DO-214AC, SMA; Voltage DC Reverse (Vr): 20V; Current Rectified: 2A
footprint DO214AC SMA
pins: 1, 2

## B230-13-F
designator D?
DIODE SCHOTTKY 30V 2A SMB; Manufacturer: Diodes Incorporated; Current Reverse Leakage @ Vr: 500uA @ 30V; Voltage Forward (Vf): 500mV @ 2A; Part Number: B230-13-F; PartId: 16282; Supplier 1: Digi-Key; Supplier Part Number 1: B230-FDITR-ND; ComponentLink1Description: Datasheet; ComponentLink1URL: http://www.diodes.com/_files/datasheets/ds13004.pdf; ComponentLink2Description: Digi-Key Listing; ComponentLink2URL: https://www.digikey.com/product-detail/en/diodes-incorporated/B230-13-F/B230-FDITR-ND/814955; Junction Operating Temperature: -65C ~ 150C; Price: 0.1237; Type: Schottky; Device Package: DO-214AA, SMB; Voltage DC Reverse (Vr): 30V; Current Rectified: 2A
footprint DO214AA SMB
pins: 1, 2

## B230A-13-F
designator D?
DIODE SCHOTTKY 30V 2A SMA; Manufacturer: Diodes Incorporated; Current Reverse Leakage @ Vr: 500uA @ 30V; Voltage Forward (Vf): 500mV @ 2A; Part Number: B230A-13-F; PartId: 16330; Supplier 1: Digi-Key; Supplier Part Number 1: B230A-FDITR-ND; ComponentLink1Description: Datasheet; ComponentLink1URL: http://www.diodes.com/_files/datasheets/ds13004.pdf; ComponentLink2Description: Digi-Key Listing; ComponentLink2URL: https://www.digikey.com/product-detail/en/diodes-incorporated/B230A-13-F/B230A-FDITR-ND/814956; Junction Operating Temperature: -65C ~ 150C; Price: 0.0935; Type: Schottky; Device Package: DO-214AC, SMA; Voltage DC Reverse (Vr): 30V; Current Rectified: 2A
footprint DO214AC SMA
pins: 1, 2

## B240-13-F
designator D?
DIODE SCHOTTKY 40V 2A SMB; Manufacturer: Diodes Incorporated; Current Reverse Leakage @ Vr: 500uA @ 40V; Voltage Forward (Vf): 500mV @ 2A; Part Number: B240-13-F; PartId: 16241; Supplier 1: Digi-Key; Supplier Part Number 1: B240-FDITR-ND; ComponentLink1Description: Datasheet; ComponentLink2Description: Digi-Key Listing; ComponentLink2URL: https://www.digikey.com/product-detail/en/diodes-incorporated/B240-13-F/B240-FDITR-ND/717690; Junction Operating Temperature: -65C ~ 150C; Price: 0.09; Type: Schottky; Device Package: DO-214AA, SMB; Voltage DC Reverse (Vr): 40V; Current Rectified: 2A
footprint DO214AA SMB
pins: 1, 2

## B240A-13-F
designator D?
DIODE SCHOTTKY 40V 2A SMA; Manufacturer: Diodes Incorporated; Current Reverse Leakage @ Vr: 500uA @ 40V; Voltage Forward (Vf): 500mV @ 2A; Part Number: B240A-13-F; PartId: 15733; Supplier 1: Digi-Key; Supplier Part Number 1: B240A-FDITR-ND; ComponentLink1Description: Datasheet; ComponentLink1URL: http://www.diodes.com/_files/datasheets/ds13004.pdf; ComponentLink2Description: Digi-Key Listing; ComponentLink2URL: https://www.digikey.com/product-detail/en/diodes-incorporated/B240A-13-F/B240A-FDITR-ND/717691; Junction Operating Temperature: -65C ~ 150C; Price: 0.1304; Type: Schottky; Device Package: DO-214AC, SMA; Voltage DC Reverse (Vr): 40V; Current Rectified: 2A
footprint DO214AC SMA
pins: 1, 2

## B240A-E3/5AT
designator D?
DIODE SCHOTTKY 40V 2A DO214AC; Manufacturer: Vishay Semiconductor Diodes Division; Current Reverse Leakage @ Vr: 500uA @ 40V; Voltage Forward (Vf): 550mV @ 2A; Part Number: B240A-E3/5AT; PartId: 15734; Supplier 1: Digi-Key; Supplier Part Number 1: B240A-E3/5ATGITR-ND; ComponentLink1Description: Datasheet; ComponentLink1URL: http://www.vishay.com/docs/88894/b230la.pdf; ComponentLink2Description: Digi-Key Listing; ComponentLink2URL: https://www.digikey.com/product-detail/en/vishay-semiconductor-diodes-division/B240A-E3%2F5AT/B240A-E3%2F5ATGITR-ND/2143371; Junction Operating Temperature: -65C ~ 150C; Price: 0.1313; Type: Schottky; Device Package: DO-214AC, SMA; Voltage DC Reverse (Vr): 40V; Current Rectified: 2A
footprint DO214AC SMA
pins: 1, 2

## B250-13-F
designator D?
DIODE SCHOTTKY 50V 2A SMB; Manufacturer: Diodes Incorporated; Current Reverse Leakage @ Vr: 500uA @ 50V; Voltage Forward (Vf): 700mV @ 2A; Part Number: B250-13-F; PartId: 16247; Supplier 1: Digi-Key; Supplier Part Number 1: B250-FDITR-ND; ComponentLink1Description: Datasheet; ComponentLink1URL: http://www.diodes.com/_files/datasheets/ds13004.pdf; ComponentLink2Description: Digi-Key Listing; ComponentLink2URL: https://www.digikey.com/product-detail/en/diodes-incorporated/B250-13-F/B250-FDITR-ND/775832; Junction Operating Temperature: -65C ~ 150C; Price: 0.1155; Type: Schottky; Device Package: DO-214AA, SMB; Voltage DC Reverse (Vr): 50V; Current Rectified: 2A
footprint DO214AA SMB
pins: 1, 2

## B250A-13-F
designator D?
DIODE SCHOTTKY 50V 2A SMA; Manufacturer: Diodes Incorporated; Current Reverse Leakage @ Vr: 500uA @ 50V; Voltage Forward (Vf): 700mV @ 2A; Part Number: B250A-13-F; PartId: 16358; Supplier 1: Digi-Key; Supplier Part Number 1: B250A-FDITR-ND; ComponentLink1Description: Datasheet; ComponentLink1URL: http://www.diodes.com/_files/datasheets/ds13004.pdf; ComponentLink2Description: Digi-Key Listing; ComponentLink2URL: https://www.digikey.com/product-detail/en/diodes-incorporated/B250A-13-F/B250A-FDITR-ND/768767; Junction Operating Temperature: -65C ~ 150C; Price: 0.1377; Type: Schottky; Device Package: DO-214AC, SMA; Voltage DC Reverse (Vr): 50V; Current Rectified: 2A
footprint DO214AC SMA
pins: 1, 2

## B260-13-F
designator D?
DIODE SCHOTTKY 60V 2A SMB; Manufacturer: Diodes Incorporated; Current Reverse Leakage @ Vr: 500uA @ 60V; Voltage Forward (Vf): 700mV @ 2A; Part Number: B260-13-F; PartId: 16242; Supplier 1: Digi-Key; Supplier Part Number 1: B260-FDITR-ND; ComponentLink1Description: Datasheet; ComponentLink1URL: http://www.diodes.com/_files/datasheets/ds13004.pdf; ComponentLink2Description: Digi-Key Listing; ComponentLink2URL: https://www.digikey.com/product-detail/en/diodes-incorporated/B260-13-F/B260-FDITR-ND/814954; Junction Operating Temperature: -65C ~ 150C; Price: 0.09; Type: Schottky; Device Package: DO-214AA, SMB; Voltage DC Reverse (Vr): 60V; Current Rectified: 2A
footprint DO214AA SMB
pins: 1, 2

## B260A-13-F
designator D?
DIODE SCHOTTKY 60V 2A SMA; Manufacturer: Diodes Incorporated; Current Reverse Leakage @ Vr: 500uA @ 60V; Voltage Forward (Vf): 700mV @ 2A; Part Number: B260A-13-F; PartId: 16325; Supplier 1: Digi-Key; Supplier Part Number 1: B260A-FDITR-ND; ComponentLink1Description: Datasheet; ComponentLink1URL: http://www.diodes.com/_files/datasheets/ds13004.pdf; ComponentLink2Description: Digi-Key Listing; ComponentLink2URL: https://www.digikey.com/product-detail/en/diodes-incorporated/B260A-13-F/B260A-FDITR-ND/750837; Junction Operating Temperature: -65C ~ 150C; Price: 0.0884; Type: Schottky; Device Package: DO-214AC, SMA; Voltage DC Reverse (Vr): 60V; Current Rectified: 2A
footprint DO214AC SMA
pins: 1, 2

## B270-13-F
designator D?
DIODE SCHOTTKY 70V 2A SMB; Manufacturer: Diodes Incorporated; Current Reverse Leakage @ Vr: 7mA @ 70V; Voltage Forward (Vf): 790mV @ 2A; Part Number: B270-13-F; PartId: 16297; Supplier 1: Digi-Key; Supplier Part Number 1: B270-FDITR-ND; ComponentLink1Description: Datasheet; ComponentLink1URL: http://www.diodes.com/_files/datasheets/ds30021.pdf; ComponentLink2Description: Digi-Key Listing; ComponentLink2URL: https://www.digikey.com/product-detail/en/diodes-incorporated/B270-13-F/B270-FDITR-ND/806532; Junction Operating Temperature: -65C ~ 150C; Price: 0.392; Type: Schottky; Device Package: DO-214AA, SMB; Voltage DC Reverse (Vr): 70V; Current Rectified: 2A
footprint DO214AA SMB
pins: 1, 2

## B320-13-F
designator D?
DIODE SCHOTTKY 20V 3A SMC; Manufacturer: Diodes Incorporated; Current Reverse Leakage @ Vr: 500uA @ 20V; Voltage Forward (Vf): 500mV @ 3A; Part Number: B320-13-F; PartId: 16216; Supplier 1: Digi-Key; Supplier Part Number 1: B320-FDITR-ND; ComponentLink1Description: Datasheet; ComponentLink1URL: http://www.diodes.com/_files/datasheets/ds30923.pdf; ComponentLink2Description: Digi-Key Listing; ComponentLink2URL: https://www.digikey.com/product-detail/en/diodes-incorporated/B320-13-F/B320-FDITR-ND/814947; Junction Operating Temperature: -55C ~ 125C; Price: 0.1511; Type: Schottky; Device Package: DO-214AB, SMC; Voltage DC Reverse (Vr): 20V; Current Rectified: 3A
footprint DO214AB SMC
pins: 1, 2

## B320A-13-F
designator D?
DIODE SCHOTTKY 20V 3A SMA; Manufacturer: Diodes Incorporated; Current Reverse Leakage @ Vr: 500uA @ 20V; Voltage Forward (Vf): 500mV @ 3A; Part Number: B320A-13-F; PartId: 16342; Supplier 1: Digi-Key; Supplier Part Number 1: B320A-FDITR-ND; ComponentLink1Description: Datasheet; ComponentLink1URL: http://www.diodes.com/_files/datasheets/ds30891.pdf; ComponentLink2Description: Digi-Key Listing; ComponentLink2URL: https://www.digikey.com/product-detail/en/diodes-incorporated/B320A-13-F/B320A-FDITR-ND/717692; Junction Operating Temperature: -55C ~ 150C; Price: 0.1348; Type: Schottky; Device Package: DO-214AC, SMA; Voltage DC Reverse (Vr): 20V; Current Rectified: 3A
footprint DO214AC SMA
pins: 1, 2

## B320B-13-F
designator D?
DIODE SCHOTTKY 20V 3A SMB; Manufacturer: Diodes Incorporated; Current Reverse Leakage @ Vr: 500uA @ 20V; Voltage Forward (Vf): 500mV @ 3A; Part Number: B320B-13-F; PartId: 16289; Supplier 1: Digi-Key; Supplier Part Number 1: B320B-FDITR-ND; ComponentLink1Description: Datasheet; ComponentLink1URL: http://www.diodes.com/_files/datasheets/ds30924.pdf; ComponentLink2Description: Digi-Key Listing; ComponentLink2URL: https://www.digikey.com/product-detail/en/diodes-incorporated/B320B-13-F/B320B-FDITR-ND/806533; Junction Operating Temperature: -55C ~ 150C; Price: 0.1627; Type: Schottky; Device Package: DO-214AA, SMB; Voltage DC Reverse (Vr): 20V; Current Rectified: 3A
footprint DO214AA SMB
pins: 1, 2

## B330-13-F
designator D?
DIODE SCHOTTKY 30V 3A SMC; Manufacturer: Diodes Incorporated; Current Reverse Leakage @ Vr: 500uA @ 30V; Voltage Forward (Vf): 500mV @ 3A; Part Number: B330-13-F; PartId: 16221; Supplier 1: Digi-Key; Supplier Part Number 1: B330-FDITR-ND; ComponentLink1Description: Datasheet; ComponentLink1URL: http://www.diodes.com/_files/datasheets/ds30923.pdf; ComponentLink2Description: Digi-Key Listing; ComponentLink2URL: https://www.digikey.com/product-detail/en/diodes-incorporated/B330-13-F/B330-FDITR-ND/725014; Junction Operating Temperature: -55C ~ 125C; Price: 0.1782; Type: Schottky; Device Package: DO-214AB, SMC; Voltage DC Reverse (Vr): 30V; Current Rectified: 3A
footprint DO214AB SMC
pins: 1, 2

## B330A-13-F
designator D?
DIODE SCHOTTKY 30V 3A SMA; Manufacturer: Diodes Incorporated; Current Reverse Leakage @ Vr: 500uA @ 30V; Voltage Forward (Vf): 500mV @ 3A; Part Number: B330A-13-F; PartId: 16341; Supplier 1: Digi-Key; Supplier Part Number 1: B330A-FDITR-ND; ComponentLink1Description: Datasheet; ComponentLink1URL: http://www.diodes.com/_files/datasheets/ds30891.pdf; ComponentLink2Description: Digi-Key Listing; ComponentLink2URL: https://www.digikey.com/product-detail/en/diodes-incorporated/B330A-13-F/B330A-FDITR-ND/814951; Junction Operating Temperature: -55C ~ 150C; Price: 0.1317; Type: Schottky; Device Package: DO-214AC, SMA; Voltage DC Reverse (Vr): 30V; Current Rectified: 3A
footprint DO214AC SMA
pins: 1, 2

## B330B-13-F
designator D?
DIODE SCHOTTKY 30V 3A SMB; Manufacturer: Diodes Incorporated; Current Reverse Leakage @ Vr: 500uA @ 30V; Voltage Forward (Vf): 500mV @ 3A; Part Number: B330B-13-F; PartId: 16290; Supplier 1: Digi-Key; Supplier Part Number 1: B330B-FDITR-ND; ComponentLink1Description: Datasheet; ComponentLink1URL: http://www.diodes.com/_files/datasheets/ds30924.pdf; ComponentLink2Description: Digi-Key Listing; ComponentLink2URL: https://www.digikey.com/product-detail/en/diodes-incorporated/B330B-13-F/B330B-FDITR-ND/724947; Junction Operating Temperature: -55C ~ 150C; Price: 0.1705; Type: Schottky; Device Package: DO-214AA, SMB; Voltage DC Reverse (Vr): 30V; Current Rectified: 3A
footprint DO214AA SMB
pins: 1, 2

## B340-13-F
designator D?
DIODE SCHOTTKY 40V 3A SMC; Manufacturer: Diodes Incorporated; Type: Surface Mount; Current Reverse Leakage @ Vr: 500uA @ 40V; Voltage Forward (Vf): 500mV @ 3A; Part Number: B340-13-F; PartId: 7160; Supplier 1: Digi-Key; Supplier Part Number 1: B340-FDITR-ND; ComponentLink1Description: Datasheet; ComponentLink1URL: http://www.diodes.com/_files/datasheets/ds30923.pdf; ComponentLink2Description: Digi-Key Listing; ComponentLink2URL: http://www.digikey.ca/product-detail/en/B340-13-F/B340-FDITR-ND/768768; Junction Operating Temperature: -55C ~ 125C; Price: 0.142; Device Package: DO-214AB, SMC; Reverse Recovery Time (trr): -; Voltage DC Reverse (Vr): 40V; Current Rectified: 3A
footprint DO214AB SMC
pins: 1, 2